# EAGLE library part TLV5638 (library gost_micro)
2.7-V TO 5.5-V LOW-POWER DUAL 12-BIT DIGITAL-TO-ANALOG CONVERTER WITH INTERNAL REFERENCE AND POWER DOWN FEATURES ? Dual 12-Bit Voltage Output DAC ? Programmable Internal Reference ? Programmable Settling Time: ? 1 µ s in Fast Mode, ? 3.5 µ s in Slow Mode ? Compatible With TMS320 and SPI ? Serial Ports ? Differential Nonlinearity 0.5 LSB Typ ? Monotonic Over Temperature
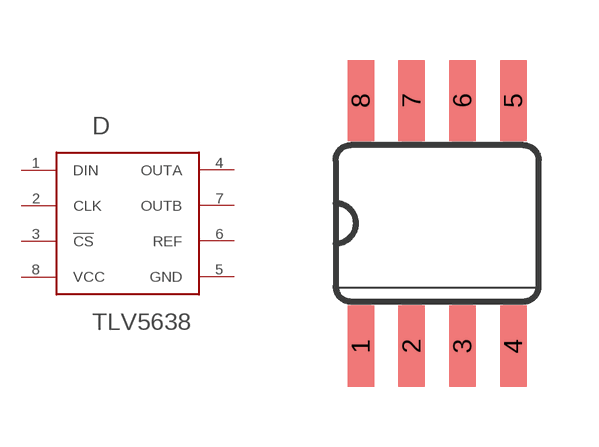
[diagram p2: symbol with the pads of SO08; footprint SO08]

Designator prefix D

## TLV5638  [SO08]
1  DIN
2  CLK
3  !CS
4  OUTA
5  GND
6  REF
7  OUTB
8  VCC

## Footprint SO08 (pad centres in mm)
Small Outline package 8 150 mil
smd 0.66 x 2.032: 1 -1.905,-3.073; 2 -0.635,-3.073; 3 0.635,-3.073; 4 1.905,-3.073; 5 1.905,3.073; 6 0.635,3.073; 7 -0.635,3.073; 8 -1.905,3.073